# Altium footprint library iMX6 Rex_V1I1_PCB.PcbLib: 27 footprints (part 2 of 2)
Each footprint in its own frame and in the unit in brackets; x right, y up, seen from the top. Pads: shape width x height; smd on the part's side, far side on the other; paste and mask are expansions set on the pad; w line width, h text height; cw(c..) or ccw(c..) is an arc to the next point about the centre after c.
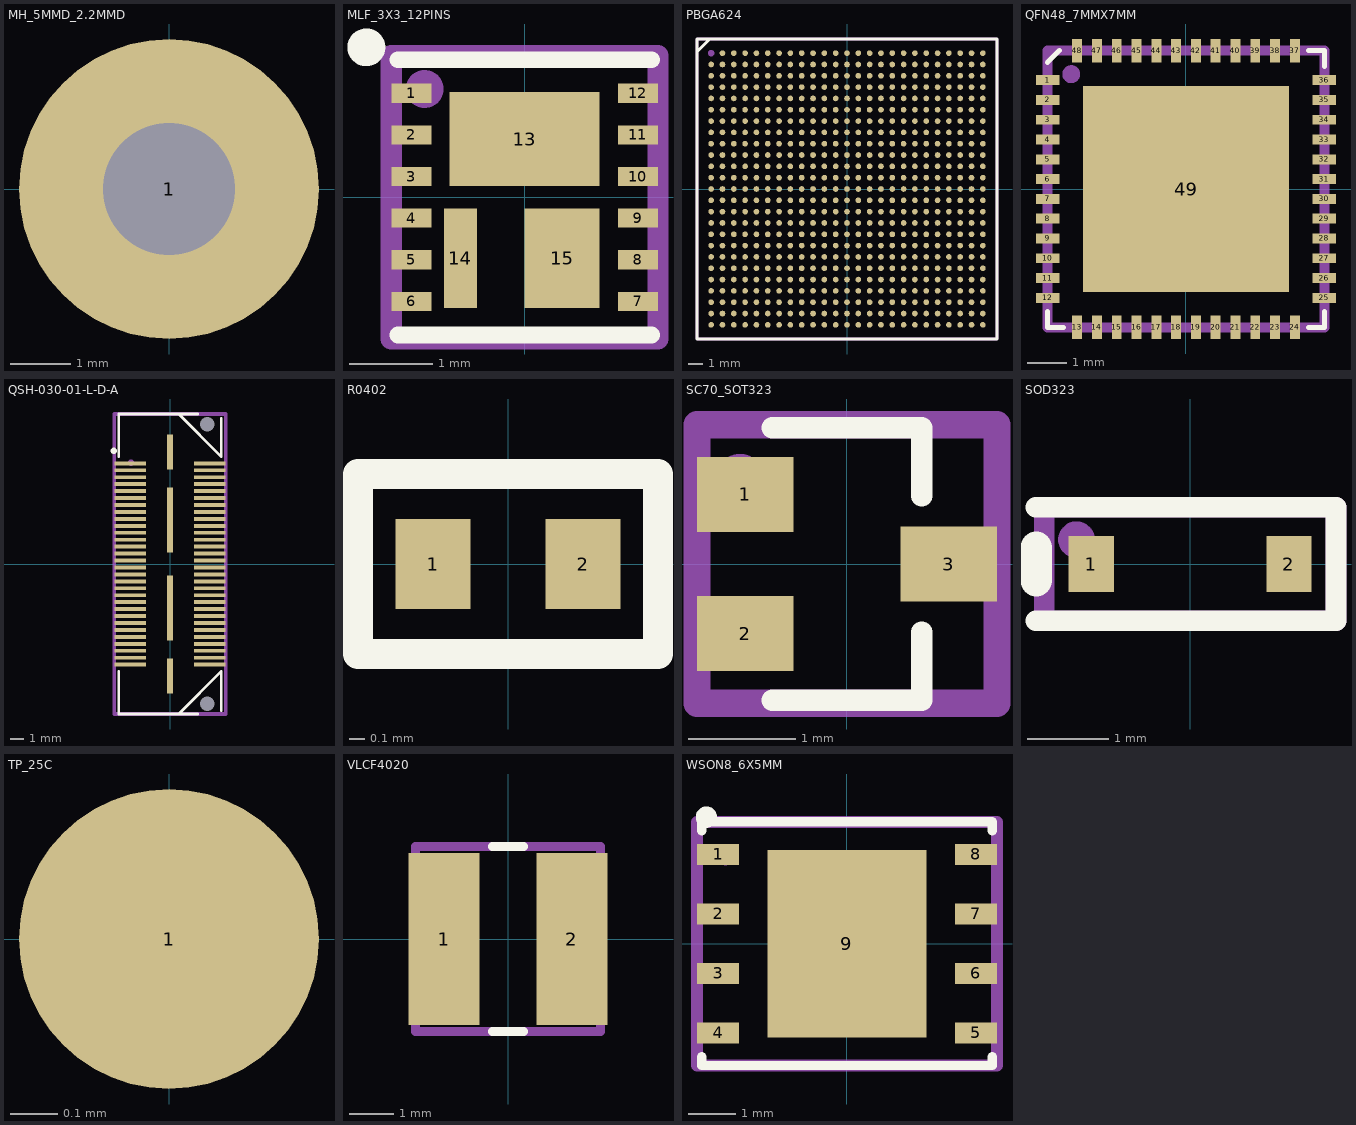
[diagram p1: the footprints below, top view; thin cyan lines are the x and y axes]

## MH_5MMD_2.2MMD [mm]
pads (1):
  round 5 / inner round 3.683 / far side round 5 hole 2.2: 1(0,0)

## MLF_3X3_12PINS [mm]
pads (15):
  rect 0.48x0.23 smd mask+0.076: 1(-1.36,1.25) 2(-1.36,0.75) 3(-1.36,0.25) 4(-1.36,-0.25) 5(-1.36,-0.75) 6(-1.36,-1.25) 7(1.36,-1.25) 8(1.36,-0.75) 9(1.36,-0.25) 10(1.36,0.25) 11(1.36,0.75) 12(1.36,1.25)
  rect 1.8x1.125 smd mask+0.025: 13(0,0.699)
  rect 0.4x1.19 smd mask+0.076: 14(-0.77,-0.73)
  rect 0.9x1.19 smd mask+0.025: 15(0.45,-0.73)
Top Overlay:
  circle w0.254: c-1.9,1.8 r0.1
  lines w0.2: -1.524,-1.651 1.524,-1.651 ; -1.524,1.651 1.524,1.651
Top Solder:
  region: 1.6,-0.6 0.8,-0.6 0.8,-1.4 1.6,-1.4 1.6,-1.1 1.1,-1.1 1.1,-0.9 1.6,-0.9
Mechanical 16:
  circle w0.254: c-1.2,1.3 r0.1
  lines w0.254: -1.6,-1.7 1.6,-1.7 1.6,1.7 -1.6,1.7 -1.6,-1.7
Mechanical 29:
  text ".Designator" at 0.8,0.5 h1
3D body: height 0.9, standoff 0, extent -1.524,-1.651 1.524,1.651

## PBGA624 [mm]
pads (624):
  round 0.4 smd mask+0.05: A2(-8.8,9.6) A3(-8,9.6) A4(-7.2,9.6) A5(-6.4,9.6) A6(-5.6,9.6) A7(-4.8,9.6) A8(-4,9.6) A9(-3.2,9.6) A10(-2.4,9.6) A11(-1.6,9.6) A12(-0.8,9.6) A13(0,9.6) A14(0.8,9.6) A15(1.6,9.6) A16(2.4,9.6) A17(3.2,9.6) A18(4,9.6) A19(4.8,9.6) A20(5.6,9.6) A21(6.4,9.6) A22(7.2,9.6) A23(8,9.6) A24(8.8,9.6) A25(9.6,9.6) AA1(-9.6,-6.4) AA2(-8.8,-6.4) AA3(-8,-6.4) AA4(-7.2,-6.4) AA5(-6.4,-6.4) AA6(-5.6,-6.4) AA7(-4.8,-6.4) AA8(-4,-6.4) AA9(-3.2,-6.4) AA10(-2.4,-6.4) AA11(-1.6,-6.4) AA12(-0.8,-6.4) AA13(0,-6.4) AA14(0.8,-6.4) AA15(1.6,-6.4) AA16(2.4,-6.4) AA17(3.2,-6.4) AA18(4,-6.4) AA19(4.8,-6.4) AA20(5.6,-6.4) AA21(6.4,-6.4) AA22(7.2,-6.4) AA23(8,-6.4) AA24(8.8,-6.4) AA25(9.6,-6.4) AB1(-9.6,-7.2) AB2(-8.8,-7.2) AB3(-8,-7.2) AB4(-7.2,-7.2) AB5(-6.4,-7.2) AB6(-5.6,-7.2) AB7(-4.8,-7.2) AB8(-4,-7.2) AB9(-3.2,-7.2) AB10(-2.4,-7.2) AB11(-1.6,-7.2) AB12(-0.8,-7.2) AB13(0,-7.2) AB14(0.8,-7.2) AB15(1.6,-7.2) AB16(2.4,-7.2) AB17(3.2,-7.2) AB18(4,-7.2) AB19(4.8,-7.2) AB20(5.6,-7.2) AB21(6.4,-7.2) AB22(7.2,-7.2) AB23(8,-7.2) AB24(8.8,-7.2) AB25(9.6,-7.2) AC1(-9.6,-8) AC2(-8.8,-8) AC3(-8,-8) AC4(-7.2,-8) AC5(-6.4,-8) AC6(-5.6,-8) AC7(-4.8,-8) AC8(-4,-8) AC9(-3.2,-8) AC10(-2.4,-8) AC11(-1.6,-8) AC12(-0.8,-8) AC13(0,-8) AC14(0.8,-8) AC15(1.6,-8) AC16(2.4,-8) AC17(3.2,-8) AC18(4,-8) AC19(4.8,-8) AC20(5.6,-8) AC21(6.4,-8) AC22(7.2,-8) AC23(8,-8) AC24(8.8,-8) AC25(9.6,-8) AD1(-9.6,-8.8) AD2(-8.8,-8.8) AD3(-8,-8.8) AD4(-7.2,-8.8) AD5(-6.4,-8.8) AD6(-5.6,-8.8) AD7(-4.8,-8.8) AD8(-4,-8.8) AD9(-3.2,-8.8) AD10(-2.4,-8.8) AD11(-1.6,-8.8) AD12(-0.8,-8.8) AD13(0,-8.8) AD14(0.8,-8.8) AD15(1.6,-8.8) AD16(2.4,-8.8) AD17(3.2,-8.8) AD18(4,-8.8) AD19(4.8,-8.8) AD20(5.6,-8.8) AD21(6.4,-8.8) AD22(7.2,-8.8) AD23(8,-8.8) AD24(8.8,-8.8) AD25(9.6,-8.8) AE1(-9.6,-9.6) AE2(-8.8,-9.6) AE3(-8,-9.6) AE4(-7.2,-9.6) AE5(-6.4,-9.6) AE6(-5.6,-9.6) AE7(-4.8,-9.6) AE8(-4,-9.6) AE9(-3.2,-9.6) AE10(-2.4,-9.6) AE11(-1.6,-9.6) AE12(-0.8,-9.6) AE13(0,-9.6) AE14(0.8,-9.6) AE15(1.6,-9.6) AE16(2.4,-9.6) AE17(3.2,-9.6) AE18(4,-9.6) AE19(4.8,-9.6) AE20(5.6,-9.6) AE21(6.4,-9.6) AE22(7.2,-9.6) AE23(8,-9.6) AE24(8.8,-9.6) AE25(9.6,-9.6) B1(-9.6,8.8) B2(-8.8,8.8) B3(-8,8.8) B4(-7.2,8.8) B5(-6.4,8.8) B6(-5.6,8.8) B7(-4.8,8.8) B8(-4,8.8) B9(-3.2,8.8) B10(-2.4,8.8) B11(-1.6,8.8) B12(-0.8,8.8) B13(0,8.8) B14(0.8,8.8) B15(1.6,8.8) B16(2.4,8.8) B17(3.2,8.8) B18(4,8.8) B19(4.8,8.8) B20(5.6,8.8) B21(6.4,8.8) B22(7.2,8.8) B23(8,8.8) B24(8.8,8.8) B25(9.6,8.8) C1(-9.6,8) C2(-8.8,8) C3(-8,8) C4(-7.2,8) C5(-6.4,8) C6(-5.6,8) C7(-4.8,8) C8(-4,8) C9(-3.2,8) C10(-2.4,8) C11(-1.6,8) C12(-0.8,8) C13(0,8) C14(0.8,8) C15(1.6,8) C16(2.4,8) C17(3.2,8) C18(4,8) C19(4.8,8) C20(5.6,8) C21(6.4,8) C22(7.2,8) C23(8,8) C24(8.8,8) C25(9.6,8) D1(-9.6,7.2) D2(-8.8,7.2) D3(-8,7.2) D4(-7.2,7.2) D5(-6.4,7.2) D6(-5.6,7.2) D7(-4.8,7.2) D8(-4,7.2) D9(-3.2,7.2) D10(-2.4,7.2) D11(-1.6,7.2) D12(-0.8,7.2) D13(0,7.2) D14(0.8,7.2) D15(1.6,7.2) D16(2.4,7.2) D17(3.2,7.2) D18(4,7.2) D19(4.8,7.2) D20(5.6,7.2) D21(6.4,7.2) D22(7.2,7.2) D23(8,7.2) D24(8.8,7.2) D25(9.6,7.2) E1(-9.6,6.4) E2(-8.8,6.4) E3(-8,6.4) E4(-7.2,6.4) E5(-6.4,6.4) E6(-5.6,6.4) E7(-4.8,6.4) E8(-4,6.4) E9(-3.2,6.4) E10(-2.4,6.4) E11(-1.6,6.4) E12(-0.8,6.4) E13(0,6.4) E14(0.8,6.4) E15(1.6,6.4) E16(2.4,6.4) E17(3.2,6.4) E18(4,6.4) E19(4.8,6.4) E20(5.6,6.4) E21(6.4,6.4) E22(7.2,6.4) E23(8,6.4) E24(8.8,6.4) E25(9.6,6.4) F1(-9.6,5.6) F2(-8.8,5.6) F3(-8,5.6) F4(-7.2,5.6) F5(-6.4,5.6) F6(-5.6,5.6) F7(-4.8,5.6) F8(-4,5.6) F9(-3.2,5.6) F10(-2.4,5.6) F11(-1.6,5.6) F12(-0.8,5.6) F13(0,5.6) F14(0.8,5.6) F15(1.6,5.6) F16(2.4,5.6) F17(3.2,5.6) F18(4,5.6) F19(4.8,5.6) F20(5.6,5.6) F21(6.4,5.6) F22(7.2,5.6) F23(8,5.6) F24(8.8,5.6) F25(9.6,5.6) G1(-9.6,4.8) G2(-8.8,4.8) G3(-8,4.8) G4(-7.2,4.8) G5(-6.4,4.8) G6(-5.6,4.8) G7(-4.8,4.8) G8(-4,4.8) G9(-3.2,4.8) G10(-2.4,4.8) G11(-1.6,4.8) G12(-0.8,4.8) G13(0,4.8) G14(0.8,4.8) G15(1.6,4.8) G16(2.4,4.8) G17(3.2,4.8) G18(4,4.8) G19(4.8,4.8) G20(5.6,4.8) G21(6.4,4.8) G22(7.2,4.8) G23(8,4.8) G24(8.8,4.8) G25(9.6,4.8) H1(-9.6,4) H2(-8.8,4) H3(-8,4) H4(-7.2,4) H5(-6.4,4) H6(-5.6,4) H7(-4.8,4) H8(-4,4) H9(-3.2,4) H10(-2.4,4) H11(-1.6,4) H12(-0.8,4) H13(0,4) H14(0.8,4) H15(1.6,4) H16(2.4,4) H17(3.2,4) H18(4,4) H19(4.8,4) H20(5.6,4) H21(6.4,4) H22(7.2,4) H23(8,4) H24(8.8,4) H25(9.6,4) J1(-9.6,3.2) J2(-8.8,3.2) J3(-8,3.2) J4(-7.2,3.2) J5(-6.4,3.2) J6(-5.6,3.2) J7(-4.8,3.2) J8(-4,3.2) J9(-3.2,3.2) J10(-2.4,3.2) J11(-1.6,3.2) J12(-0.8,3.2) J13(0,3.2) J14(0.8,3.2) J15(1.6,3.2) J16(2.4,3.2) J17(3.2,3.2) J18(4,3.2) J19(4.8,3.2) J20(5.6,3.2) J21(6.4,3.2) J22(7.2,3.2) J23(8,3.2) J24(8.8,3.2) J25(9.6,3.2) K1(-9.6,2.4) K2(-8.8,2.4) K3(-8,2.4) K4(-7.2,2.4) K5(-6.4,2.4) K6(-5.6,2.4) K7(-4.8,2.4) K8(-4,2.4) K9(-3.2,2.4) K10(-2.4,2.4) K11(-1.6,2.4) K12(-0.8,2.4) K13(0,2.4) K14(0.8,2.4) K15(1.6,2.4) K16(2.4,2.4) K17(3.2,2.4) K18(4,2.4) K19(4.8,2.4) K20(5.6,2.4) K21(6.4,2.4) K22(7.2,2.4) K23(8,2.4) K24(8.8,2.4) K25(9.6,2.4) L1(-9.6,1.6) L2(-8.8,1.6) L3(-8,1.6) L4(-7.2,1.6) L5(-6.4,1.6) L6(-5.6,1.6) L7(-4.8,1.6) L8(-4,1.6) L9(-3.2,1.6) L10(-2.4,1.6) L11(-1.6,1.6) L12(-0.8,1.6) L13(0,1.6) L14(0.8,1.6) L15(1.6,1.6) L16(2.4,1.6) L17(3.2,1.6) L18(4,1.6) L19(4.8,1.6) L20(5.6,1.6) L21(6.4,1.6) L22(7.2,1.6) L23(8,1.6) L24(8.8,1.6) L25(9.6,1.6) M1(-9.6,0.8) M2(-8.8,0.8) M3(-8,0.8) M4(-7.2,0.8) M5(-6.4,0.8) M6(-5.6,0.8) M7(-4.8,0.8) M8(-4,0.8) M9(-3.2,0.8) M10(-2.4,0.8) M11(-1.6,0.8) M12(-0.8,0.8) M13(0,0.8) M14(0.8,0.8) M15(1.6,0.8) M16(2.4,0.8) M17(3.2,0.8) M18(4,0.8) M19(4.8,0.8) M20(5.6,0.8) M21(6.4,0.8) M22(7.2,0.8) M23(8,0.8) M24(8.8,0.8) M25(9.6,0.8) N1(-9.6,0) N2(-8.8,0) N3(-8,0) N4(-7.2,0) N5(-6.4,0) N6(-5.6,0) N7(-4.8,0) N8(-4,0) N9(-3.2,0) N10(-2.4,0) N11(-1.6,0) N12(-0.8,0) N13(0,0) N14(0.8,0) N15(1.6,0) N16(2.4,0) N17(3.2,0) N18(4,0) N19(4.8,0) N20(5.6,0) N21(6.4,0) N22(7.2,0) N23(8,0) N24(8.8,0) N25(9.6,0) P1(-9.6,-0.8) P2(-8.8,-0.8) P3(-8,-0.8) P4(-7.2,-0.8) P5(-6.4,-0.8) P6(-5.6,-0.8) P7(-4.8,-0.8) P8(-4,-0.8) P9(-3.2,-0.8) P10(-2.4,-0.8) P11(-1.6,-0.8) P12(-0.8,-0.8) P13(0,-0.8) P14(0.8,-0.8) P15(1.6,-0.8) P16(2.4,-0.8) P17(3.2,-0.8) P18(4,-0.8) P19(4.8,-0.8) P20(5.6,-0.8) P21(6.4,-0.8) P22(7.2,-0.8) P23(8,-0.8) P24(8.8,-0.8) P25(9.6,-0.8) R1(-9.6,-1.6) R2(-8.8,-1.6) R3(-8,-1.6) R4(-7.2,-1.6) R5(-6.4,-1.6) R6(-5.6,-1.6) R7(-4.8,-1.6) R8(-4,-1.6) R9(-3.2,-1.6) R10(-2.4,-1.6) R11(-1.6,-1.6) R12(-0.8,-1.6) R13(0,-1.6) R14(0.8,-1.6) R15(1.6,-1.6) R16(2.4,-1.6) R17(3.2,-1.6) R18(4,-1.6) R19(4.8,-1.6) R20(5.6,-1.6) R21(6.4,-1.6) R22(7.2,-1.6) R23(8,-1.6) R24(8.8,-1.6) R25(9.6,-1.6) T1(-9.6,-2.4) T2(-8.8,-2.4) T3(-8,-2.4) T4(-7.2,-2.4) T5(-6.4,-2.4) T6(-5.6,-2.4) T7(-4.8,-2.4) T8(-4,-2.4) T9(-3.2,-2.4) T10(-2.4,-2.4) T11(-1.6,-2.4) T12(-0.8,-2.4) T13(0,-2.4) T14(0.8,-2.4) T15(1.6,-2.4) T16(2.4,-2.4) T17(3.2,-2.4) T18(4,-2.4) T19(4.8,-2.4) T20(5.6,-2.4) T21(6.4,-2.4) T22(7.2,-2.4) T23(8,-2.4) T24(8.8,-2.4) T25(9.6,-2.4) U1(-9.6,-3.2) U2(-8.8,-3.2) U3(-8,-3.2) U4(-7.2,-3.2) U5(-6.4,-3.2) U6(-5.6,-3.2) U7(-4.8,-3.2) U8(-4,-3.2) U9(-3.2,-3.2) U10(-2.4,-3.2) U11(-1.6,-3.2) U12(-0.8,-3.2) U13(0,-3.2) U14(0.8,-3.2) U15(1.6,-3.2) U16(2.4,-3.2) U17(3.2,-3.2) U18(4,-3.2) U19(4.8,-3.2) U20(5.6,-3.2) U21(6.4,-3.2) U22(7.2,-3.2) U23(8,-3.2) U24(8.8,-3.2) U25(9.6,-3.2) V1(-9.6,-4) V2(-8.8,-4) V3(-8,-4) V4(-7.2,-4) V5(-6.4,-4) V6(-5.6,-4) V7(-4.8,-4) V8(-4,-4) V9(-3.2,-4) V10(-2.4,-4) V11(-1.6,-4) V12(-0.8,-4) V13(0,-4) V14(0.8,-4) V15(1.6,-4) V16(2.4,-4) V17(3.2,-4) V18(4,-4) V19(4.8,-4) V20(5.6,-4) V21(6.4,-4) V22(7.2,-4) V23(8,-4) V24(8.8,-4) V25(9.6,-4) W1(-9.6,-4.8) W2(-8.8,-4.8) W3(-8,-4.8) W4(-7.2,-4.8) W5(-6.4,-4.8) W6(-5.6,-4.8) W7(-4.8,-4.8) W8(-4,-4.8) W9(-3.2,-4.8) W10(-2.4,-4.8) W11(-1.6,-4.8) W12(-0.8,-4.8) W13(0,-4.8) W14(0.8,-4.8) W15(1.6,-4.8) W16(2.4,-4.8) W17(3.2,-4.8) W18(4,-4.8) W19(4.8,-4.8) W20(5.6,-4.8) W21(6.4,-4.8) W22(7.2,-4.8) W23(8,-4.8) W24(8.8,-4.8) W25(9.6,-4.8) Y1(-9.6,-5.6) Y2(-8.8,-5.6) Y3(-8,-5.6) Y4(-7.2,-5.6) Y5(-6.4,-5.6) Y6(-5.6,-5.6) Y7(-4.8,-5.6) Y8(-4,-5.6) Y9(-3.2,-5.6) Y10(-2.4,-5.6) Y11(-1.6,-5.6) Y12(-0.8,-5.6) Y13(0,-5.6) Y14(0.8,-5.6) Y15(1.6,-5.6) Y16(2.4,-5.6) Y17(3.2,-5.6) Y18(4,-5.6) Y19(4.8,-5.6) Y20(5.6,-5.6) Y21(6.4,-5.6) Y22(7.2,-5.6) Y23(8,-5.6) Y24(8.8,-5.6) Y25(9.6,-5.6)
Top Overlay:
  lines w0.2: -10.6,9.7 -9.7,10.6 ; -10.6,-10.6 -10.6,10.6 10.6,10.6 10.6,-10.6 -10.6,-10.6
Mechanical 16:
  circle w0.254: c-9.6,9.6 r0.1
  lines w0.2: -10.6,-10.6 10.6,-10.6 10.6,10.6 -10.6,10.6 -10.6,-10.6
Mechanical 29:
  text ".Designator" at -0.5,1 h1.52
3D body: height 1.1, standoff -0.4, extent -10.501,-10.503 10.501,10.5

## QFN48_7MMX7MM [mm]
pads (49):
  rect 0.6x0.25 smd mask+0.03: 1(-3.49,2.75) 2(-3.49,2.25) 3(-3.49,1.75) 4(-3.49,1.25) 5(-3.49,0.75) 6(-3.49,0.25) 7(-3.49,-0.25) 8(-3.49,-0.75) 9(-3.49,-1.25) 10(-3.49,-1.75) 11(-3.49,-2.25) 12(-3.49,-2.75) 25(3.49,-2.75) 26(3.49,-2.25) 27(3.49,-1.75) 28(3.49,-1.25) 29(3.49,-0.75) 30(3.49,-0.25) 31(3.49,0.25) 32(3.49,0.75) 33(3.49,1.25) 34(3.49,1.75) 35(3.49,2.25) 36(3.49,2.75)
  rect 0.25x0.6 smd mask+0.03: 13(-2.75,-3.49) 14(-2.25,-3.49) 15(-1.75,-3.49) 16(-1.25,-3.49) 17(-0.75,-3.49) 18(-0.25,-3.49) 19(0.25,-3.49) 20(0.75,-3.49) 21(1.25,-3.49) 22(1.75,-3.49) 23(2.25,-3.49) 24(2.75,-3.49) 37(2.75,3.49) 38(2.25,3.49) 39(1.75,3.49) 40(1.25,3.49) 41(0.75,3.49) 42(0.25,3.49) 43(-0.25,3.49) 44(-0.75,3.49) 45(-1.25,3.49) 46(-1.75,3.49) 47(-2.25,3.49) 48(-2.75,3.49)
  rect 5.2x5.2 smd paste-10 mask+0.025: 49(0,0)
Top Overlay:
  lines w0.127: -3.5,-3.1 -3.5,-3.5 -3.1,-3.5 ; -3.5,3.2 -3.2,3.5 ; 3.1,-3.5 3.5,-3.5 3.5,-3.1 ; 3.1,3.5 3.5,3.5 3.5,3.1
Top Paste:
  rectangle: 0.1,0.1 2.5,2.5
  rectangle: -2.5,0.1 -0.1,2.5
  rectangle: -2.5,-2.5 -0.1,-0.1
  rectangle: 0.1,-2.5 2.5,-0.1
Mechanical 16:
  circle w0.254: c-2.9,2.9 r0.1
  lines w0.254: -3.5,-3.5 -3.5,3.5 3.5,3.5 3.5,-3.5 -3.5,-3.5
Mechanical 29:
  text ".Designator" at 0.9,0.5 h1.2
3D body: height 0.78, standoff -0.02, extent -3.51,-3.51 3.51,3.51

## QSH-030-01-L-D-A [mm]
pads (66):
  rect 2.27x0.28 smd mask+0.051: 1(-2.87,7.25) 2(2.87,7.25) 3(-2.87,6.75) 4(2.87,6.75) 5(-2.87,6.25) 6(2.87,6.25) 7(-2.87,5.75) 8(2.87,5.75) 9(-2.87,5.25) 10(2.87,5.25) 11(-2.87,4.75) 12(2.87,4.75) 13(-2.87,4.25) 14(2.87,4.25) 15(-2.87,3.75) 16(2.87,3.75) 17(-2.87,3.25) 18(2.87,3.25) 19(-2.87,2.75) 20(2.87,2.75) 21(-2.87,2.25) 22(2.87,2.25) 23(-2.87,1.75) 24(2.87,1.75) 25(-2.87,1.25) 26(2.87,1.25) 27(-2.87,0.75) 28(2.87,0.75) 29(-2.87,0.25) 30(2.87,0.25) 31(-2.87,-0.25) 32(2.87,-0.25) 33(-2.87,-0.75) 34(2.87,-0.75) 35(-2.87,-1.25) 36(2.87,-1.25) 37(-2.87,-1.75) 38(2.87,-1.75) 39(-2.87,-2.25) 40(2.87,-2.25) 41(-2.87,-2.75) 42(2.87,-2.75) 43(-2.87,-3.25) 44(2.87,-3.25) 45(-2.87,-3.75) 46(2.87,-3.75) 47(-2.87,-4.25) 48(2.87,-4.25) 49(-2.87,-4.75) 50(2.87,-4.75) 51(-2.87,-5.25) 52(2.87,-5.25) 53(-2.87,-5.75) 54(2.87,-5.75) 55(-2.87,-6.25) 56(2.87,-6.25) 57(-2.87,-6.75) 58(2.87,-6.75) 59(-2.87,-7.25) 60(2.87,-7.25)
  rect 0.43x2.54 smd mask+0.076: 61(0,8.065) 64(0,-8.065)
  rect 0.43x4.7 smd mask+0.076: 62(0,3.175) 63(0,-3.175)
  round 0 hole 1.05 unplated: 65(2.67,10.065) 66(2.67,-10.065)
Top Overlay:
  circle w0.254: c-4.05,8.15 r0.1
  lines w0.2: -3.683,-7.747 -3.683,-10.8 2,-10.8 ; -3.683,7.747 -3.683,10.8 2,10.8 ; 0,-10.8 0.63,-10.8 3.683,-7.747 3.683,-10.541 ; 0,10.8 0.63,10.8 3.683,7.747 3.683,10.5
Mechanical 16:
  circle w0.254: c-2.8,7.3 r0.1
  lines w0.254: -4,-10.8 -4,10.8 4,10.8 4,-10.8 -4,-10.8
Mechanical 29:
  text ".Designator" at -1.3,1 h1.52
3D body: height 3.42, standoff -0.58, extent -3.647,-10.635 3.847,10.637

## R0402 [mm]
pads (2):
  rect 0.5x0.6 smd: 1(-0.5,0) 2(0.5,0)
Top Overlay:
  lines w0.2: -1,-0.6 1,-0.6 1,0.6 -1,0.6 -1,-0.6
Mechanical 16:
  lines w0.15: -1,-0.6 -1,0.6 1,0.6 1,-0.6 -1,-0.6
Mechanical 29:
  text ".Designator" at -0.5,-0.2 h0.4
3D body: height 0.4, standoff 0, extent -0.5,-0.25 0.5,0.25

## SC70_SOT323 [mm]
pads (3):
  rect 0.9x0.7 smd: 1(-0.95,0.65) 2(-0.95,-0.65) 3(0.95,0)
Top Overlay:
  lines w0.2: -0.699,-1.27 0.699,-1.27 0.699,-0.635 ; -0.699,1.27 0.699,1.27 0.699,0.635
Mechanical 16:
  circle w0.254: c-1,0.8 r0.1
  lines w0.254: -1.4,-1.3 1.4,-1.3 1.4,1.3 -1.4,1.3 -1.4,-1.3
Mechanical 29:
  text ".Designator" at 0.3,-0.5 h0.6
3D body: height 1.1, standoff 0, extent -0.699,-1.27 0.699,1.27
3D body: height 0.75, standoff 0, extent -1.27,0.318 -0.699,1.016
3D body: height 0.75, standoff 0, extent -1.27,-1.016 -0.699,-0.318
3D body: height 0.75, standoff 0, extent 0.699,-0.318 1.27,0.381

## SOD323 [mil]
pads (2):
  rect 22x27 smd mask+3: 1(-48,0) 2(48,0)
Top Overlay:
  lines w10: -74.8,-27.56 70.87,-27.56 70.87,27.56 -74.8,27.56
  lines w15.75: -74.8,-7.87 -74.8,7.87
Mechanical 16:
  circle w10: c-55.12,11.81 r3.94
  lines w10: -70.87,-27.56 70.87,-27.56 70.87,27.56 -70.87,27.56 -70.87,-27.56
Mechanical 29:
  text ".Designator" at -7.87,-7.87 h15.75
3D body: height 38.78, standoff -0.2, extent -49.21,-24.61 49.21,24.6

## TP_25C [mm]
pads (1):
  round 0.635 smd paste-0.635 mask+0.051: 1(0,0)

## VLCF4020 [mm]
pads (2):
  rect 1.6x3.9 smd paste-10: 1(-1.45,0)
  rect 1.6x3.9 smd paste-10 mask+0.1: 2(1.45,0)
Top Overlay:
  lines w0.2: -0.35,-2.1 0.35,-2.1 ; -0.35,2.1 0.35,2.1
Top Paste:
  region: 0.65,-1.95 0.65,1.95 1.45,1.95 2.25,1.25 2.25,-1.25 1.45,-1.95
  region: -0.65,-1.95 -0.65,1.95 -1.45,1.95 -2.25,1.25 -2.25,-1.25 -1.45,-1.95
Top Solder:
  region: -0.55,-2.05 -0.55,2.05 -1.55,2.05 -2.35,1.35 -2.35,-1.35 -1.55,-2.05
  region: 0.55,2.05 0.55,-2.05 1.55,-2.05 2.35,-1.35 2.35,1.35 1.55,2.05
Mechanical 16:
  circle w0.254: c-1.55,1.55 r0.1
  lines w0.2: -2.1,-2.1 2.1,-2.1 2.1,2.1 -2.1,2.1 -2.1,-2.1
Mechanical 29:
  text ".Designator" at -0.7,-0.7 h1
3D body: height 0.2, standoff 0, extent -2.15,-0.75 -2,0.75
3D body: height 0.2, standoff 0, extent 2,-0.8 2.15,0.7
3D body: height 2.1, standoff 2, extent -1.598,-1.584 1.596,1.603
3D body: height 2, standoff 1.7, extent -2,-2 2,2
3D body: height 0.3, standoff 0, extent -2,-2 2,2
3D body: height 1.7, standoff 0.3, extent -2,-2 2,2

## WSON8_6X5MM [mm]
pads (9):
  rect 0.9x0.45 smd: 1(-2.75,1.905) 2(-2.75,0.635) 3(-2.75,-0.635) 4(-2.75,-1.905) 5(2.75,-1.905) 6(2.75,-0.635) 7(2.75,0.635) 8(2.75,1.905)
  rect 3.4x4 smd: 9(0,0)
Top Overlay:
  circle w0.254: c-3,2.7 r0.1
  lines w0.2: -3.1,-2.413 -3.1,-2.6 3.1,-2.6 3.1,-2.413 ; -3.1,2.413 -3.1,2.6 3.1,2.6 3.1,2.413
Mechanical 16:
  circle w0.254: c-2.6,1.9 r0.1
  lines w0.254: -3.2,-2.6 -3.2,2.6 3.2,2.6 3.2,-2.6 -3.2,-2.6
Mechanical 29:
  text ".Designator" at -1.8,-0.9 h1.52
3D body: height 0.8, standoff 0, extent -3,-2.5 3,2.5